# Altium footprint library WE-LAN.PcbLib: 41 footprints (part 2 of 3)
Each footprint in its own frame and in the unit in brackets; x right, y up, seen from the top. Pads: shape width x height; smd on the part's side, far side on the other; paste and mask are expansions set on the pad; w line width, h text height; cw(c..) or ccw(c..) is an arc to the next point about the centre after c.
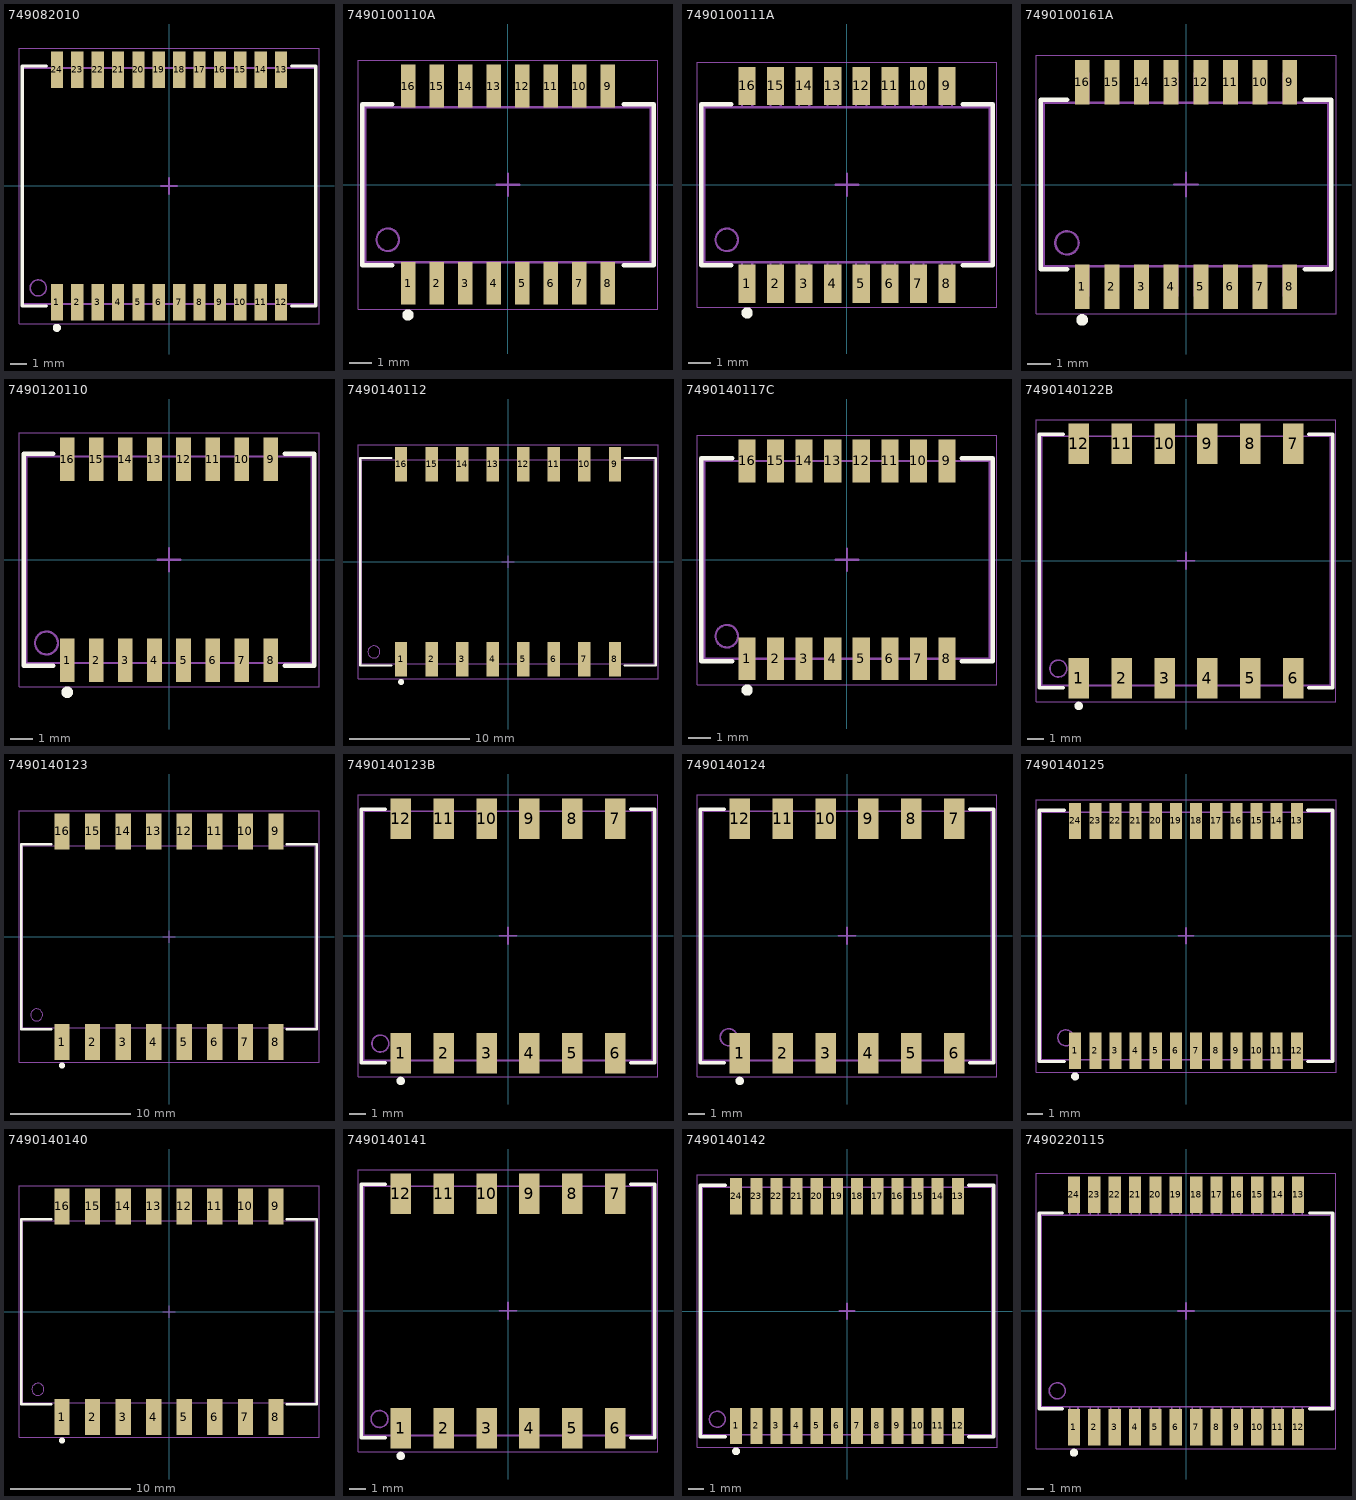
[diagram p1: the footprints below, top view; thin cyan lines are the x and y axes]

## 749082010 [mm] "SMD LAN Transformers, body 18.29x14.7mm, 24-Leads"
height 8.8
pads (24):
  rect 0.76x2.29 smd: 1(-6.985,-7.24) 2(-5.715,-7.24) 3(-4.445,-7.24) 4(-3.175,-7.24) 5(-1.905,-7.24) 6(-0.635,-7.24) 7(0.635,-7.24) 8(1.905,-7.24) 9(3.175,-7.24) 10(4.445,-7.24) 11(5.715,-7.24) 12(6.985,-7.24) 13(6.985,7.24) 14(5.715,7.24) 15(4.445,7.24) 16(3.175,7.24) 17(1.905,7.24) 18(0.635,7.24) 19(-0.635,7.24) 20(-1.905,7.24) 21(-3.175,7.24) 22(-4.445,7.24) 23(-5.715,7.24) 24(-6.985,7.24)
Top Overlay:
  circle w0.25: c-6.985,-8.835 r0.125
  lines w0.2: -7.65,-7.475 -9.145,-7.475 -9.145,7.475 -7.65,7.475 ; 7.65,-7.475 9.145,-7.475 9.145,7.475 7.65,7.475
Top Assembly:
  circle w0.1: c-8.145,-6.35 r0.5
  lines w0.1: -7.24,-7.35 -7.24,-8 -6.73,-8 -6.73,-7.35 ; -7.24,7.35 -7.24,8 -6.73,8 -6.73,7.35 ; -5.97,-7.35 -5.97,-8 -5.46,-8 -5.46,-7.35 ; -5.97,7.35 -5.97,8 -5.46,8 -5.46,7.35 ; -4.7,-7.35 -4.7,-8 -4.19,-8 -4.19,-7.35 ; -4.7,7.35 -4.7,8 -4.19,8 -4.19,7.35 ; -3.43,-7.35 -3.43,-8 -2.92,-8 -2.92,-7.35 ; -3.43,7.35 -3.43,8 -2.92,8 -2.92,7.35 ; -2.16,-7.35 -2.16,-8 -1.65,-8 -1.65,-7.35 ; -2.16,7.35 -2.16,8 -1.65,8 -1.65,7.35 ; -0.89,-7.35 -0.89,-8 -0.38,-8 -0.38,-7.35 ; -0.89,7.35 -0.89,8 -0.38,8 -0.38,7.35 ; 0.38,-7.35 0.38,-8 0.89,-8 0.89,-7.35 ; 0.38,7.35 0.38,8 0.89,8 0.89,7.35 ; 1.65,-7.35 1.65,-8 2.16,-8 2.16,-7.35 ; 1.65,7.35 1.65,8 2.16,8 2.16,7.35 ; 2.92,-7.35 2.92,-8 3.43,-8 3.43,-7.35 ; 2.92,7.35 2.92,8 3.43,8 3.43,7.35 ; 4.19,-7.35 4.19,-8 4.7,-8 4.7,-7.35 ; 4.19,7.35 4.19,8 4.7,8 4.7,7.35 ; 5.46,-7.35 5.46,-8 5.97,-8 5.97,-7.35 ; 5.46,7.35 5.46,8 5.97,8 5.97,7.35 ; 6.73,-7.35 6.73,-8 7.24,-8 7.24,-7.35 ; 6.73,7.35 6.73,8 7.24,8 7.24,7.35 ; -9.145,-7.35 -9.145,7.35 9.145,7.35 9.145,-7.35 -9.145,-7.35
Top Designator:
  text ".Designator" at -3.647,-0.357 h1
Top Courtyard:
  lines w0.05: -9.345,-8.585 -9.345,8.585 9.345,8.585 9.345,-8.585 -9.345,-8.585
Top Component Center:
  lines w0.1: -0.5,0 0.5,0 ; 0,-0.5 0,0.5
3D body "749082010.stp": height 8.7, standoff 0, extent -8.75,-8 8.75,8

## 7490100110A [mm] "SMD LAN Transformers, body 12.7x8.8mm, 16-Leads"
height 6.35
pads (16):
  rect 0.64x1.91 smd: 1(-4.445,-4.385) 2(-3.175,-4.385) 3(-1.905,-4.385) 4(-0.635,-4.385) 5(0.635,-4.385) 6(1.905,-4.385) 7(3.175,-4.385) 8(4.445,-4.385) 9(4.445,4.385) 10(3.175,4.385) 11(1.905,4.385) 12(0.635,4.385) 13(-0.635,4.385) 14(-1.905,4.385) 15(-3.175,4.385) 16(-4.445,4.385)
Top Overlay:
  circle w0.25: c-4.45,-5.8 r0.125
  lines w0.2: -5.15,-3.575 -6.475,-3.575 -6.475,3.575 -5.15,3.575 ; 5.15,-3.575 6.475,-3.575 6.475,3.575 5.15,3.575
Top Assembly:
  circle w0.1: c-5.35,-2.45 r0.5
  lines w0.1: -4.675,-3.45 -4.675,-4.7 -4.215,-4.7 -4.215,-3.45 ; -4.675,3.45 -4.675,4.7 -4.215,4.7 -4.215,3.45 ; -3.405,-3.45 -3.405,-4.7 -2.945,-4.7 -2.945,-3.45 ; -3.405,3.45 -3.405,4.7 -2.945,4.7 -2.945,3.45 ; -2.135,-3.45 -2.135,-4.7 -1.675,-4.7 -1.675,-3.45 ; -2.135,3.45 -2.135,4.7 -1.675,4.7 -1.675,3.45 ; -0.865,-3.45 -0.865,-4.7 -0.405,-4.7 -0.405,-3.45 ; -0.865,3.45 -0.865,4.7 -0.405,4.7 -0.405,3.45 ; 0.405,-3.45 0.405,-4.7 0.865,-4.7 0.865,-3.45 ; 0.405,3.45 0.405,4.7 0.865,4.7 0.865,3.45 ; 1.675,-3.45 1.675,-4.7 2.135,-4.7 2.135,-3.45 ; 1.675,3.45 1.675,4.7 2.135,4.7 2.135,3.45 ; 2.945,-3.45 2.945,-4.7 3.405,-4.7 3.405,-3.45 ; 2.945,3.45 2.945,4.7 3.405,4.7 3.405,3.45 ; 4.215,-3.45 4.215,-4.7 4.675,-4.7 4.675,-3.45 ; 4.215,3.45 4.215,4.7 4.675,4.7 4.675,3.45 ; -6.35,-3.45 -6.35,3.45 6.35,3.45 6.35,-3.45 -6.35,-3.45
Top Designator:
  text ".Designator" at -3.647,-0.357 h1
Top Courtyard:
  lines w0.05: -6.675,-5.54 6.675,-5.54 6.675,5.54 -6.675,5.54 -6.675,-5.54
Top Component Center:
  lines w0.1: -0.5,0 0.5,0 ; 0,-0.5 0,0.5
3D body "7490100110A.stp": height 5.67, standoff 0.02, extent -6.35,-4.7 6.35,4.7

## 7490100111A [mm] "SMD LAN Transformers, body 12.7x8.8mm, 16-Leads"
height 6.35
pads (16):
  rect 0.76x1.7 smd: 1(-4.445,-4.4) 2(-3.175,-4.4) 3(-1.905,-4.4) 4(-0.635,-4.4) 5(0.635,-4.4) 6(1.905,-4.4) 7(3.175,-4.4) 8(4.445,-4.4) 9(4.445,4.4) 10(3.175,4.4) 11(1.905,4.4) 12(0.635,4.4) 13(-0.635,4.4) 14(-1.905,4.4) 15(-3.175,4.4) 16(-4.445,4.4)
Top Overlay:
  circle w0.25: c-4.445,-5.7 r0.125
  lines w0.2: -5.15,-3.575 -6.475,-3.575 -6.475,3.575 -5.15,3.575 ; 5.15,-3.575 6.475,-3.575 6.475,3.575 5.15,3.575
Top Assembly:
  circle w0.1: c-5.35,-2.45 r0.5
  lines w0.1: -4.675,-3.45 -4.675,-4.7 -4.215,-4.7 -4.215,-3.45 ; -4.675,3.45 -4.675,4.7 -4.215,4.7 -4.215,3.45 ; -3.405,-3.45 -3.405,-4.7 -2.945,-4.7 -2.945,-3.45 ; -3.405,3.45 -3.405,4.7 -2.945,4.7 -2.945,3.45 ; -2.135,-3.45 -2.135,-4.7 -1.675,-4.7 -1.675,-3.45 ; -2.135,3.45 -2.135,4.7 -1.675,4.7 -1.675,3.45 ; -0.865,-3.45 -0.865,-4.7 -0.405,-4.7 -0.405,-3.45 ; -0.865,3.45 -0.865,4.7 -0.405,4.7 -0.405,3.45 ; 0.405,-3.45 0.405,-4.7 0.865,-4.7 0.865,-3.45 ; 0.405,3.45 0.405,4.7 0.865,4.7 0.865,3.45 ; 1.675,-3.45 1.675,-4.7 2.135,-4.7 2.135,-3.45 ; 1.675,3.45 1.675,4.7 2.135,4.7 2.135,3.45 ; 2.945,-3.45 2.945,-4.7 3.405,-4.7 3.405,-3.45 ; 2.945,3.45 2.945,4.7 3.405,4.7 3.405,3.45 ; 4.215,-3.45 4.215,-4.7 4.675,-4.7 4.675,-3.45 ; 4.215,3.45 4.215,4.7 4.675,4.7 4.675,3.45 ; -6.35,-3.45 6.35,-3.45 6.35,3.45 -6.35,3.45 -6.35,-3.45
Top Designator:
  text ".Designator" at -3.647,-0.357 h1
Top Courtyard:
  lines w0.05: -6.675,-5.45 6.675,-5.45 6.675,5.45 -6.675,5.45 -6.675,-5.45
Top Component Center:
  lines w0.1: -0.5,0 0.5,0 ; 0,-0.5 0,0.5
3D body "7490100111A.stp": height 5.67, standoff 0.02, extent -6.35,-4.76 6.35,4.76

## 7490100161A [mm] "SMD LAN Transformers, body 12.7x8.8mm, 16-Leads"
height 6.35
pads (16):
  rect 0.64x1.91 smd: 1(-4.445,-4.385) 2(-3.175,-4.385) 3(-1.905,-4.385) 4(-0.635,-4.385) 5(0.635,-4.385) 6(1.905,-4.385) 7(3.175,-4.385) 8(4.445,-4.385) 9(4.445,4.385) 10(3.175,4.385) 11(1.905,4.385) 12(0.635,4.385) 13(-0.635,4.385) 14(-1.905,4.385) 15(-3.175,4.385) 16(-4.445,4.385)
Top Overlay:
  circle w0.25: c-4.45,-5.8 r0.125
  lines w0.2: -5.1,-3.625 -6.225,-3.625 -6.225,3.625 -5.1,3.625 ; 5.1,-3.625 6.225,-3.625 6.225,3.625 5.1,3.625
Top Assembly:
  circle w0.1: c-5.1,-2.5 r0.5
  lines w0.1: -4.7,-3.5 -4.7,-4.76 -4.19,-4.76 -4.19,-3.5 ; -4.7,3.5 -4.7,4.76 -4.19,4.76 -4.19,3.5 ; -3.43,-3.5 -3.43,-4.76 -2.92,-4.76 -2.92,-3.5 ; -3.43,3.5 -3.43,4.76 -2.92,4.76 -2.92,3.5 ; -2.16,-3.5 -2.16,-4.76 -1.65,-4.76 -1.65,-3.5 ; -2.16,3.5 -2.16,4.76 -1.65,4.76 -1.65,3.5 ; -0.89,-3.5 -0.89,-4.76 -0.38,-4.76 -0.38,-3.5 ; -0.89,3.5 -0.89,4.76 -0.38,4.76 -0.38,3.5 ; 0.38,-3.5 0.38,-4.76 0.89,-4.76 0.89,-3.5 ; 0.38,3.5 0.38,4.76 0.89,4.76 0.89,3.5 ; 1.65,-3.5 1.65,-4.76 2.16,-4.76 2.16,-3.5 ; 1.65,3.5 1.65,4.76 2.16,4.76 2.16,3.5 ; 2.92,-3.5 2.92,-4.76 3.43,-4.76 3.43,-3.5 ; 2.92,3.5 2.92,4.76 3.43,4.76 3.43,3.5 ; 4.19,-3.5 4.19,-4.76 4.7,-4.76 4.7,-3.5 ; 4.19,3.5 4.19,4.76 4.7,4.76 4.7,3.5 ; -6.1,-3.5 -6.1,3.5 6.1,3.5 6.1,-3.5 -6.1,-3.5
Top Designator:
  text ".Designator" at -3.647,-0.357 h1
Top Courtyard:
  lines w0.05: -6.425,-5.54 -6.425,5.54 6.425,5.54 6.425,-5.54 -6.425,-5.54
Top Component Center:
  lines w0.1: -0.5,0 0.5,0 ; 0,-0.5 0,0.5
3D body "7490100161A.stp": height 5.4, standoff 0, extent -6.1,-4.76 6.1,4.76

## 7490120110 [mm] "SMD LAN Transformers, body 12.45x9.02mm, 16-Leads"
height 5.6
pads (16):
  rect 0.64x1.9 smd: 1(-4.445,-4.385) 2(-3.175,-4.385) 3(-1.905,-4.385) 4(-0.635,-4.385) 5(0.635,-4.385) 6(1.905,-4.385) 7(3.175,-4.385) 8(4.445,-4.385) 9(4.445,4.385) 10(3.175,4.385) 11(1.905,4.385) 12(0.635,4.385) 13(-0.635,4.385) 14(-1.905,4.385) 15(-3.175,4.385) 16(-4.445,4.385)
Top Overlay:
  circle w0.25: c-4.445,-5.785 r0.125
  lines w0.2: -5.05,-4.635 -6.35,-4.635 -6.35,4.635 -5.05,4.635 ; 5.05,-4.635 6.35,-4.635 6.35,4.635 5.05,4.635
Top Assembly:
  circle w0.1: c-5.35,-3.635 r0.5
  lines w0.1: -6.225,-4.51 6.225,-4.51 6.225,4.51 -6.225,4.51 -6.225,-4.51
Top Designator:
  text ".Designator" at -3.647,-0.357 h1
Top Courtyard:
  lines w0.05: -6.55,-5.54 6.55,-5.54 6.55,5.54 -6.55,5.54 -6.55,-5.54
Top Component Center:
  lines w0.1: -0.5,0 0.5,0 ; 0,-0.5 0,0.5
3D body "7490120110.stp": height 5.55, standoff 0, extent -6.35,-4.95 6.35,4.95

## 7490140112 [mm] "SMD LAN Transformers, body 24.3x17mm, 16-Leads"
height 10.85
pads (16):
  rect 1.02x2.87 smd: 1(-8.89,-8.115) 2(-6.35,-8.115) 3(-3.81,-8.115) 4(-1.27,-8.115) 5(1.27,-8.115) 6(3.81,-8.115) 7(6.35,-8.115) 8(8.89,-8.115) 9(8.89,8.115) 10(6.35,8.115) 11(3.81,8.115) 12(1.27,8.115) 13(-1.27,8.115) 14(-3.81,8.115) 15(-6.35,8.115) 16(-8.89,8.115)
Top Overlay:
  circle w0.25: c-8.89,-10 r0.125
  lines w0.2: -9.7,-8.625 -12.275,-8.625 -12.275,8.625 -9.7,8.625 ; 9.7,-8.625 12.275,-8.625 12.275,8.625 9.7,8.625
Top Assembly:
  circle w0.1: c-11.15,-7.5 r0.5
  lines w0.1: -12.15,-8.5 12.15,-8.5 12.15,8.5 -12.15,8.5 -12.15,-8.5
Top Designator:
  text ".Designator" at -3.647,-0.357 h1
Top Courtyard:
  lines w0.05: -12.475,-9.75 -12.475,9.75 12.475,9.75 12.475,-9.75 -12.475,-9.75
Top Component Center:
  lines w0.1: -0.5,0 0.5,0 ; 0,-0.5 0,0.5
3D body "7490140112.stp": height 10.85, standoff 0, extent -12.275,-9.125 12.275,9.125

## 7490140117C [mm] "SMD LAN Transformers, body 12.7x8.8mm, 16-Leads"
height 6
pads (16):
  rect 0.76x1.9 smd: 1(-4.445,-4.4) 2(-3.175,-4.4) 3(-1.905,-4.4) 4(-0.635,-4.4) 5(0.635,-4.4) 6(1.905,-4.4) 7(3.175,-4.4) 8(4.445,-4.4) 9(4.445,4.4) 10(3.175,4.4) 11(1.905,4.4) 12(0.635,4.4) 13(-0.635,4.4) 14(-1.905,4.4) 15(-3.175,4.4) 16(-4.445,4.4)
Top Overlay:
  circle w0.25: c-4.445,-5.8 r0.125
  lines w0.2: -5.1,-4.525 -6.475,-4.525 -6.475,4.525 -5.1,4.525 ; 5.1,-4.525 6.475,-4.525 6.475,4.525 5.1,4.525
Top Assembly:
  circle w0.1: c-5.35,-3.4 r0.5
  lines w0.1: -6.35,-4.4 6.35,-4.4 6.35,4.4 -6.35,4.4 -6.35,-4.4
Top Designator:
  text ".Designator" at -3.647,-0.357 h1
Top Courtyard:
  lines w0.05: -6.675,-5.55 -6.675,5.55 6.675,5.55 6.675,-5.55 -6.675,-5.55
Top Component Center:
  lines w0.1: -0.5,0 0.5,0 ; 0,-0.5 0,0.5
3D body "7490140117C.stp": height 5.8, standoff 0, extent -6.35,-4.7 6.35,4.7

## 7490140122B [mm] "SMD LAN Transformers, body 17.1x14.75mm, 12-Leads"
height 8.65
pads (12):
  rect 1.21x2.4 smd: 1(-6.35,-6.935) 2(-3.81,-6.935) 3(-1.27,-6.935) 4(1.27,-6.935) 5(3.81,-6.935) 6(6.35,-6.935) 7(6.35,6.935) 8(3.81,6.935) 9(1.27,6.935) 10(-1.27,6.935) 11(-3.81,6.935) 12(-6.35,6.935)
Top Overlay:
  circle w0.25: c-6.35,-8.585 r0.125
  lines w0.2: -7.25,-7.5 -8.675,-7.5 -8.675,7.5 -7.25,7.5 ; 7.25,-7.5 8.675,-7.5 8.675,7.5 7.25,7.5
Top Assembly:
  circle w0.1: c-7.55,-6.375 r0.5
  lines w0.1: -8.55,-7.375 8.55,-7.375 8.55,7.375 -8.55,7.375 -8.55,-7.375
Top Designator:
  text ".Designator" at -3.647,-0.357 h1
Top Courtyard:
  lines w0.05: -8.875,-8.335 -8.875,8.335 8.875,8.335 8.875,-8.335 -8.875,-8.335
Top Component Center:
  lines w0.1: -0.5,0 0.5,0 ; 0,-0.5 0,0.5
3D body "7490140122B.stp": height 8.4, standoff 0, extent -8.55,-7.62 8.55,7.62

## 7490140123 [mm] "SMD LAN Transformers, body 24.28x15.1mm, 16-Leads"
height 11
pads (16):
  rect 1.27x3 smd: 1(-8.89,-8.75) 2(-6.35,-8.75) 3(-3.81,-8.75) 4(-1.27,-8.75) 5(1.27,-8.75) 6(3.81,-8.75) 7(6.35,-8.75) 8(8.89,-8.75) 9(8.89,8.75) 10(6.35,8.75) 11(3.81,8.75) 12(1.27,8.75) 13(-1.27,8.75) 14(-3.81,8.75) 15(-6.35,8.75) 16(-8.89,8.75)
Top Overlay:
  circle w0.25: c-8.89,-10.7 r0.125
  lines w0.2: -9.8,-7.675 -12.265,-7.675 -12.265,7.675 -9.8,7.675 ; 9.8,-7.675 12.265,-7.675 12.265,7.675 9.8,7.675
Top Assembly:
  circle w0.1: c-11,-6.5 r0.5
  lines w0.1: -9.265,-7.55 -9.265,-9.35 -8.515,-9.35 -8.515,-7.55 ; -9.265,7.55 -9.265,9.35 -8.515,9.35 -8.515,7.55 ; -6.725,-7.55 -6.725,-9.35 -5.975,-9.35 -5.975,-7.55 ; -6.725,7.55 -6.725,9.35 -5.975,9.35 -5.975,7.55 ; -4.185,-7.55 -4.185,-9.35 -3.435,-9.35 -3.435,-7.55 ; -4.185,7.55 -4.185,9.35 -3.435,9.35 -3.435,7.55 ; -1.645,-7.55 -1.645,-9.35 -0.895,-9.35 -0.895,-7.55 ; -1.645,7.55 -1.645,9.35 -0.895,9.35 -0.895,7.55 ; 0.895,-7.55 0.895,-9.35 1.645,-9.35 1.645,-7.55 ; 0.895,7.55 0.895,9.35 1.645,9.35 1.645,7.55 ; 3.435,-7.55 3.435,-9.35 4.185,-9.35 4.185,-7.55 ; 3.435,7.55 3.435,9.35 4.185,9.35 4.185,7.55 ; 5.975,-7.55 5.975,-9.35 6.725,-9.35 6.725,-7.55 ; 5.975,7.55 5.975,9.35 6.725,9.35 6.725,7.55 ; 8.515,-7.55 8.515,-9.35 9.265,-9.35 9.265,-7.55 ; 8.515,7.55 8.515,9.35 9.265,9.35 9.265,7.55 ; -12.14,-7.55 12.14,-7.55 12.14,7.55 -12.14,7.55 -12.14,-7.55
Top Designator:
  text ".Designator" at -3.647,-0.357 h1
Top Courtyard:
  lines w0.05: -12.465,-10.45 12.465,-10.45 12.465,10.45 -12.465,10.45 -12.465,-10.45
Top Component Center:
  lines w0.1: -0.5,0 0.5,0 ; 0,-0.5 0,0.5
3D body "7490140123.stp": height 10, standoff 0, extent -12.075,-9.3 12.075,9.3

## 7490140123B [mm] "SMD LAN Transformers, body 17.1x14.75mm, 12-Leads"
height 8.65
pads (12):
  rect 1.21x2.4 smd: 1(-6.35,-6.935) 2(-3.81,-6.935) 3(-1.27,-6.935) 4(1.27,-6.935) 5(3.81,-6.935) 6(6.35,-6.935) 7(6.35,6.935) 8(3.81,6.935) 9(1.27,6.935) 10(-1.27,6.935) 11(-3.81,6.935) 12(-6.35,6.935)
Top Overlay:
  circle w0.25: c-6.35,-8.585 r0.125
  lines w0.2: -7.25,-7.5 -8.675,-7.5 -8.675,7.5 -7.25,7.5 ; 7.25,-7.5 8.675,-7.5 8.675,7.5 7.25,7.5
Top Assembly:
  circle w0.1: c-7.55,-6.375 r0.5
  lines w0.1: -8.55,-7.375 8.55,-7.375 8.55,7.375 -8.55,7.375 -8.55,-7.375
Top Designator:
  text ".Designator" at -3.647,-0.357 h1
Top Courtyard:
  lines w0.05: -8.875,-8.335 -8.875,8.335 8.875,8.335 8.875,-8.335 -8.875,-8.335
Top Component Center:
  lines w0.1: -0.5,0 0.5,0 ; 0,-0.5 0,0.5
3D body "7490140123B.stp": height 8.4, standoff 0, extent -8.55,-7.62 8.55,7.62

## 7490140124 [mm] "SMD LAN Transformers, body 17.1x14.75mm, 12-Leads"
height 8.65
pads (12):
  rect 1.21x2.4 smd: 1(-6.35,-6.935) 2(-3.81,-6.935) 3(-1.27,-6.935) 4(1.27,-6.935) 5(3.81,-6.935) 6(6.35,-6.935) 7(6.35,6.935) 8(3.81,6.935) 9(1.27,6.935) 10(-1.27,6.935) 11(-3.81,6.935) 12(-6.35,6.935)
Top Overlay:
  circle w0.25: c-6.35,-8.585 r0.125
  lines w0.2: -7.25,-7.5 -8.675,-7.5 -8.675,7.5 -7.25,7.5 ; 7.25,-7.5 8.675,-7.5 8.675,7.5 7.25,7.5
Top Assembly:
  circle w0.1: c-7,-6 r0.5
  lines w0.1: -8.55,-7.375 -8.55,7.375 8.55,7.375 8.55,-7.375 -8.55,-7.375
Top Designator:
  text ".Designator" at -3.647,-0.357 h1
Top Courtyard:
  lines w0.05: -8.875,-8.335 -8.875,8.335 8.875,8.335 8.875,-8.335 -8.875,-8.335
Top Component Center:
  lines w0.1: -0.5,0 0.5,0 ; 0,-0.5 0,0.5
3D body "7490140124.stp": height 8.4, standoff 0, extent -8.55,-7.62 8.55,7.62

## 7490140125 [mm] "SMD LAN Transformers, body 18.25x15.59mm, 24-Leads"
height 10.02
pads (24):
  rect 0.76x2.29 smd: 1(-6.985,-7.24) 2(-5.715,-7.24) 3(-4.445,-7.24) 4(-3.175,-7.24) 5(-1.905,-7.24) 6(-0.635,-7.24) 7(0.635,-7.24) 8(1.905,-7.24) 9(3.175,-7.24) 10(4.445,-7.24) 11(5.715,-7.24) 12(6.985,-7.24) 13(6.985,7.24) 14(5.715,7.24) 15(4.445,7.24) 16(3.175,7.24) 17(1.905,7.24) 18(0.635,7.24) 19(-0.635,7.24) 20(-1.905,7.24) 21(-3.175,7.24) 22(-4.445,7.24) 23(-5.715,7.24) 24(-6.985,7.24)
Top Overlay:
  circle w0.25: c-6.985,-8.85 r0.125
  lines w0.2: -7.65,-7.92 -9.25,-7.92 -9.25,7.92 -7.65,7.92 ; 7.65,-7.92 9.25,-7.92 9.25,7.92 7.65,7.92
Top Assembly:
  circle w0.1: c-7.575,-6.42 r0.5
  lines w0.1: -9.125,-7.795 -9.125,7.795 9.125,7.795 9.125,-7.795 -9.125,-7.795
Top Designator:
  text ".Designator" at -3.647,-0.357 h1
Top Courtyard:
  lines w0.05: -9.45,-8.585 -9.45,8.585 9.45,8.585 9.45,-8.585 -9.45,-8.585
Top Component Center:
  lines w0.1: -0.5,0 0.5,0 ; 0,-0.5 0,0.5
3D body "7490140125.stp": height 9.78, standoff 0.01, extent -9.25,-7.97 9.25,7.97

## 7490140140 [mm] "SMD LAN Transformers, body 24.28x15.1mm, 16-Leads"
height 11
pads (16):
  rect 1.27x3 smd: 1(-8.89,-8.75) 2(-6.35,-8.75) 3(-3.81,-8.75) 4(-1.27,-8.75) 5(1.27,-8.75) 6(3.81,-8.75) 7(6.35,-8.75) 8(8.89,-8.75) 9(8.89,8.75) 10(6.35,8.75) 11(3.81,8.75) 12(1.27,8.75) 13(-1.27,8.75) 14(-3.81,8.75) 15(-6.35,8.75) 16(-8.89,8.75)
Top Overlay:
  circle w0.25: c-8.89,-10.7 r0.125
  lines w0.2: -9.8,-7.675 -12.265,-7.675 -12.265,7.675 -9.8,7.675 ; 9.8,-7.675 12.265,-7.675 12.265,7.675 9.8,7.675
Top Assembly:
  circle w0.1: c-10.89,-6.45 r0.5
  lines w0.1: -9.265,-7.55 -9.265,-9.35 -8.515,-9.35 -8.515,-7.55 ; -9.265,7.55 -9.265,9.35 -8.515,9.35 -8.515,7.55 ; -6.725,-7.55 -6.725,-9.35 -5.975,-9.35 -5.975,-7.55 ; -6.725,7.55 -6.725,9.35 -5.975,9.35 -5.975,7.55 ; -4.185,-7.55 -4.185,-9.35 -3.435,-9.35 -3.435,-7.55 ; -4.185,7.55 -4.185,9.35 -3.435,9.35 -3.435,7.55 ; -1.645,-7.55 -1.645,-9.35 -0.895,-9.35 -0.895,-7.55 ; -1.645,7.55 -1.645,9.35 -0.895,9.35 -0.895,7.55 ; 0.895,-7.55 0.895,-9.35 1.645,-9.35 1.645,-7.55 ; 0.895,7.55 0.895,9.35 1.645,9.35 1.645,7.55 ; 3.435,-7.55 3.435,-9.35 4.185,-9.35 4.185,-7.55 ; 3.435,7.55 3.435,9.35 4.185,9.35 4.185,7.55 ; 5.975,-7.55 5.975,-9.35 6.725,-9.35 6.725,-7.55 ; 5.975,7.55 5.975,9.35 6.725,9.35 6.725,7.55 ; 8.515,-7.55 8.515,-9.35 9.265,-9.35 9.265,-7.55 ; 8.515,7.55 8.515,9.35 9.265,9.35 9.265,7.55 ; -12.14,-7.55 12.14,-7.55 12.14,7.55 -12.14,7.55 -12.14,-7.55
Top Designator:
  text ".Designator" at -3.647,-0.357 h1
Top Courtyard:
  lines w0.05: -12.465,-10.45 12.465,-10.45 12.465,10.45 -12.465,10.45 -12.465,-10.45
Top Component Center:
  lines w0.1: -0.5,0 0.5,0 ; 0,-0.5 0,0.5
3D body "7490140140.stp": height 10.02, standoff 0.02, extent -12.075,-9.3 12.075,9.3

## 7490140141 [mm] "SMD LAN Transformers, body 17.1x14.75mm, 12-Leads"
height 8.65
pads (12):
  rect 1.21x2.4 smd: 1(-6.35,-6.935) 2(-3.81,-6.935) 3(-1.27,-6.935) 4(1.27,-6.935) 5(3.81,-6.935) 6(6.35,-6.935) 7(6.35,6.935) 8(3.81,6.935) 9(1.27,6.935) 10(-1.27,6.935) 11(-3.81,6.935) 12(-6.35,6.935)
Top Overlay:
  circle w0.25: c-6.35,-8.585 r0.125
  lines w0.2: -7.25,-7.5 -8.675,-7.5 -8.675,7.5 -7.25,7.5 ; 7.25,-7.5 8.675,-7.5 8.675,7.5 7.25,7.5
Top Assembly:
  circle w0.1: c-7.6,-6.4 r0.5
  lines w0.1: -8.55,-7.375 -8.55,7.375 8.55,7.375 8.55,-7.375 -8.55,-7.375
Top Designator:
  text ".Designator" at -3.647,-0.357 h1
Top Courtyard:
  lines w0.05: -8.875,-8.335 -8.875,8.335 8.875,8.335 8.875,-8.335 -8.875,-8.335
Top Component Center:
  lines w0.1: -0.5,0 0.5,0 ; 0,-0.5 0,0.5
3D body "7490140141.stp": height 8.45, standoff 0.05, extent -8.55,-7.62 8.55,7.62

## 7490140142 [mm] "SMD LAN Transformers, body 18.25x15.59mm, 24-Leads"
height 10.02
pads (24):
  rect 0.76x2.29 smd: 1(-6.985,-7.24) 2(-5.715,-7.24) 3(-4.445,-7.24) 4(-3.175,-7.24) 5(-1.905,-7.24) 6(-0.635,-7.24) 7(0.635,-7.24) 8(1.905,-7.24) 9(3.175,-7.24) 10(4.445,-7.24) 11(5.715,-7.24) 12(6.985,-7.24) 13(6.985,7.24) 14(5.715,7.24) 15(4.445,7.24) 16(3.175,7.24) 17(1.905,7.24) 18(0.635,7.24) 19(-0.635,7.24) 20(-1.905,7.24) 21(-3.175,7.24) 22(-4.445,7.24) 23(-5.715,7.24) 24(-6.985,7.24)
Top Overlay:
  circle w0.25: c-6.985,-8.835 r0.125
  lines w0.2: -7.65,-7.92 -9.25,-7.92 -9.25,7.92 -7.65,7.92 ; 7.65,-7.92 9.25,-7.92 9.25,7.92 7.65,7.92
Top Assembly:
  circle w0.1: c-8.175,-6.82 r0.5
  lines w0.1: -9.125,-7.795 9.125,-7.795 9.125,7.795 -9.125,7.795 -9.125,-7.795
Top Designator:
  text ".Designator" at -3.647,-0.357 h1
Top Courtyard:
  lines w0.05: -9.45,-8.585 9.45,-8.585 9.45,8.585 -9.45,8.585 -9.45,-8.585
Top Component Center:
  lines w0.1: -0.5,0 0.5,0 ; 0,-0.5 0,0.5
3D body "7490140142.stp": height 9.78, standoff 0.01, extent -9.25,-7.97 9.25,7.97

## 7490220115 [mm] "SMD LAN Transformers, body 18.05x11.95mm, 24-Leads"
height 6.35
pads (24):
  rect 0.76x2.29 smd: 1(-6.985,-7.24) 2(-5.715,-7.24) 3(-4.445,-7.24) 4(-3.175,-7.24) 5(-1.905,-7.24) 6(-0.635,-7.24) 7(0.635,-7.24) 8(1.905,-7.24) 9(3.175,-7.24) 10(4.445,-7.24) 11(5.715,-7.24) 12(6.985,-7.24) 13(6.985,7.24) 14(5.715,7.24) 15(4.445,7.24) 16(3.175,7.24) 17(1.905,7.24) 18(0.635,7.24) 19(-0.635,7.24) 20(-1.905,7.24) 21(-3.175,7.24) 22(-4.445,7.24) 23(-5.715,7.24) 24(-6.985,7.24)
Top Overlay:
  circle w0.25: c-6.985,-8.835 r0.125
  lines w0.2: -7.7,-6.1 -9.15,-6.1 -9.15,6.1 -7.7,6.1 ; 7.7,-6.1 9.15,-6.1 9.15,6.1 7.7,6.1
Top Assembly:
  circle w0.1: c-8.025,-4.975 r0.5
  lines w0.1: -7.235,-5.975 -7.235,-7.875 -6.735,-7.875 -6.735,-5.975 ; -7.235,5.975 -7.235,7.875 -6.735,7.875 -6.735,5.975 ; -5.965,-5.975 -5.965,-7.875 -5.465,-7.875 -5.465,-5.975 ; -5.965,5.975 -5.965,7.875 -5.465,7.875 -5.465,5.975 ; -4.695,-5.975 -4.695,-7.875 -4.195,-7.875 -4.195,-5.975 ; -4.695,5.975 -4.695,7.875 -4.195,7.875 -4.195,5.975 ; -3.425,-5.975 -3.425,-7.875 -2.925,-7.875 -2.925,-5.975 ; -3.425,5.975 -3.425,7.875 -2.925,7.875 -2.925,5.975 ; -2.155,-5.975 -2.155,-7.875 -1.655,-7.875 -1.655,-5.975 ; -2.155,5.975 -2.155,7.875 -1.655,7.875 -1.655,5.975 ; -0.885,-5.975 -0.885,-7.875 -0.385,-7.875 -0.385,-5.975 ; -0.885,5.975 -0.885,7.875 -0.385,7.875 -0.385,5.975 ; 0.385,-5.975 0.385,-7.875 0.885,-7.875 0.885,-5.975 ; 0.385,5.975 0.385,7.875 0.885,7.875 0.885,5.975 ; 1.655,-5.975 1.655,-7.875 2.155,-7.875 2.155,-5.975 ; 1.655,5.975 1.655,7.875 2.155,7.875 2.155,5.975 ; 2.925,-5.975 2.925,-7.875 3.425,-7.875 3.425,-5.975 ; 2.925,5.975 2.925,7.875 3.425,7.875 3.425,5.975 ; 4.195,-5.975 4.195,-7.875 4.695,-7.875 4.695,-5.975 ; 4.195,5.975 4.195,7.875 4.695,7.875 4.695,5.975 ; 5.465,-5.975 5.465,-7.875 5.965,-7.875 5.965,-5.975 ; 5.465,5.975 5.465,7.875 5.965,7.875 5.965,5.975 ; 6.735,-5.975 6.735,-7.875 7.235,-7.875 7.235,-5.975 ; 6.735,5.975 6.735,7.875 7.235,7.875 7.235,5.975 ; -9.025,-5.975 9.025,-5.975 9.025,5.975 -9.025,5.975 -9.025,-5.975
Top Designator:
  text ".Designator" at -3.647,-0.357 h1
Top Courtyard:
  lines w0.05: -9.35,-8.585 -9.35,8.585 9.35,8.585 9.35,-8.585 -9.35,-8.585
Top Component Center:
  lines w0.1: -0.5,0 0.5,0 ; 0,-0.5 0,0.5
3D body "7490220115.stp": height 6.35, standoff 0, extent -9.15,-8 9.15,8